# EAGLE library part TL072 (library library)
Low noise JFET quad operational amplifier
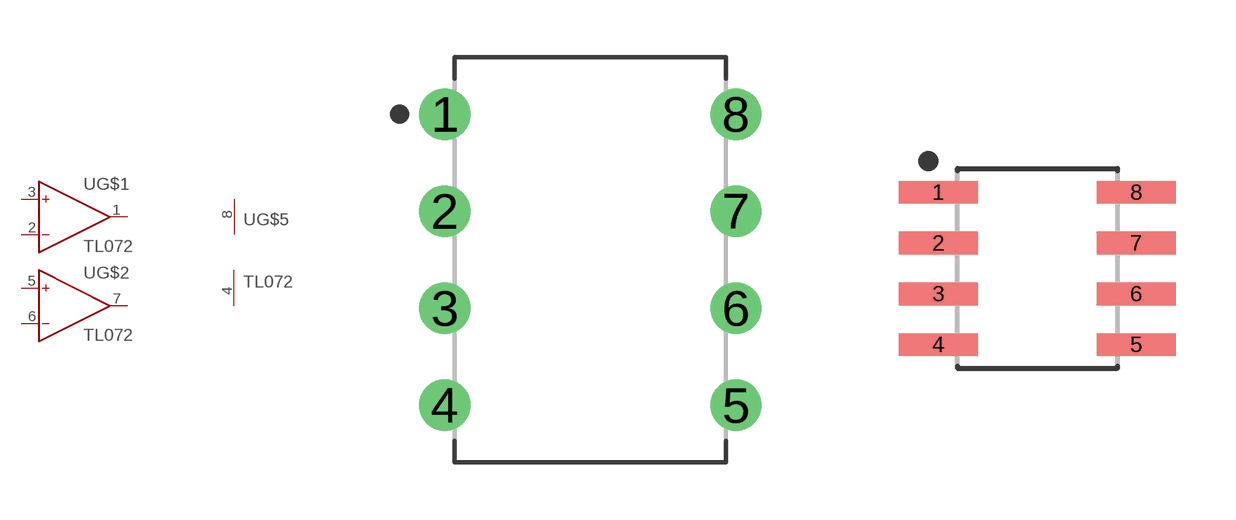
[diagram p2: symbol with the pads of DIP762W53P254L980H508Q8B; footprints DIP762W53P254L980H508Q8B, SOIC127P600X175-8N]

Designator prefix U; gates G$1=OP G$2=OP G$5=PWR+-

## TL072PDIP-8 (LINK: https://www.mouser.se/ProductDetail/Texas-Instruments/TL072IP?qs=5BZzbFV4k2v7IBrcArRPQw%3D%3D; MOUSERNR: 595-TL072IP; MPN: TL072IP; SUPPLIER: Mouser), TL072SO-8PDIP-8 (LINK: https://www.mouser.se/ProductDetail/STMicroelectronics/TL072BIDT?qs=%252BsFu707QyFwATnhGYo0v%252BA%3D%3D; MOUSERNR: 511-TL072BIDT; MPN: TL072BIDT; SUPPLIER: Mouser)  [DIP762W53P254L980H508Q8B]
1  G$1:OUT  out
2  G$1:IN-  in
3  G$1:IN+  in
4  G$5:V-  pwr
5  G$2:IN+  in
6  G$2:IN-  in
7  G$2:OUT  out
8  G$5:V+  pwr

## TL072SO-8  [SOIC127P600X175-8N]
Pads as for DIP762W53P254L980H508Q8B

## Footprint DIP762W53P254L980H508Q8B (pad centres in mm)
8-DIP, 2.54 mm (0.10 in) pitch, 7.62 mm (0.30 in) span, 9.80 X 6.66 X 5.08 mm body 8-pin DIP package with 2.54 mm (0.10 in) pitch, 7.62 mm (0.30 in) span with body size 9.80 X 6.66 X 5.08 mm
drill 0.743 pad 1.343: 1 -3.81,3.81; 2 -3.81,1.27; 3 -3.81,-1.27; 4 -3.81,-3.81; 5 3.81,-3.81; 6 3.81,-1.27; 7 3.81,1.27; 8 3.81,3.81

## Footprint SOIC127P600X175-8N (pad centres in mm)
8-SOIC, 1.27 mm pitch, 6.00 mm span, 4.90 X 3.90 X 1.75 mm body 8-pin SOIC package with 1.27 mm pitch, 6.00 mm span with body size 4.90 X 3.90 X 1.75 mm
smd 1.968 x 0.569: 1 -2.473,1.905; 2 -2.473,0.635; 3 -2.473,-0.635; 4 -2.473,-1.905; 5 2.473,-1.905; 6 2.473,-0.635; 7 2.473,0.635; 8 2.473,1.905